# EAGLE library part FTSH-105-01-L-DV-A (library FTSH-105-01-L-DV-A)
10 Position, High Reliability Header Strips, 0.050" pitch Source: Datasheet <http://suddendocs.samtec.com/prints/ftsh-1xx-xx-xxx-dv-xxx-xxx-mkt.pdf>
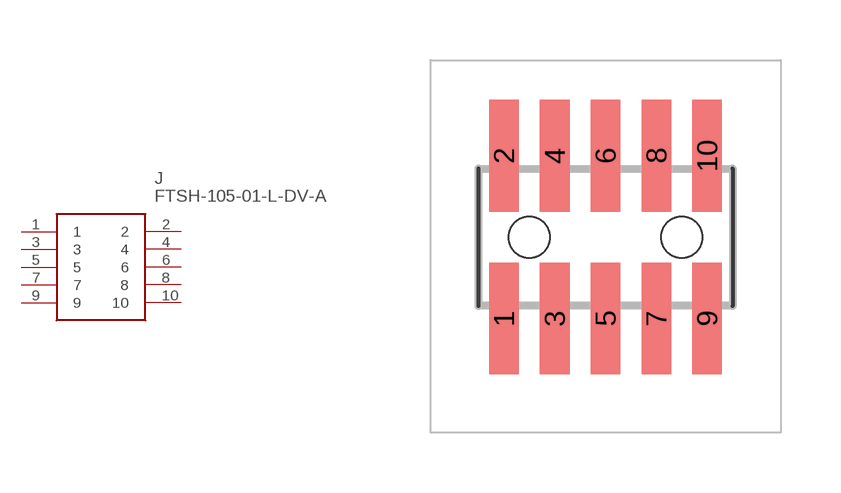
[diagram p0: symbol with the pads of FTSH-105-XX-YYY-DV-A; footprint FTSH-105-XX-YYY-DV-A]

Designator prefix J

## FTSH-105-01-L-DV-A (Description: 10 Position, High Reliability Header Strips, 0.050&quot; pitch; Height: mm; Manufacturer_Name: SAMTEC; Manufacturer_Part_Number: FTSH-105-01-L-DV-A; Mouser_Part_Number: 200-FTSH10501LDVA; Mouser_Price-Stock: https://www.mouser.co.uk/ProductDetail/Samtec/FTSH-105-01-L-DV-A?qs=vqM95g%252BRBeykLJELFbssPw%3D%3D)  [FTSH-105-XX-YYY-DV-A]
1  1
2  2
3  3
4  4
5  5
6  6
7  7
8  8
9  9
10  10

## Footprint FTSH-105-XX-YYY-DV-A (pad centres in mm)
FTSH-105-XX-YYY-DV-A
smd 0.74 x 2.79: 1 -2.54,-2.035; 2 -2.54,2.035; 3 -1.27,-2.035; 4 -1.27,2.035; 5 0,-2.035; 6 0,2.035; 7 1.27,-2.035; 8 1.27,2.035; 9 2.54,-2.035; 10 2.54,2.035
hole 1.02 at -1.905,0
hole 1.02 at 1.905,0